# EAGLE library part *161 (library on-semiconductor)
Universal Voltage Monitor Source: www.onsemi.com/pub_link/Collateral/MC34161-D.PDF
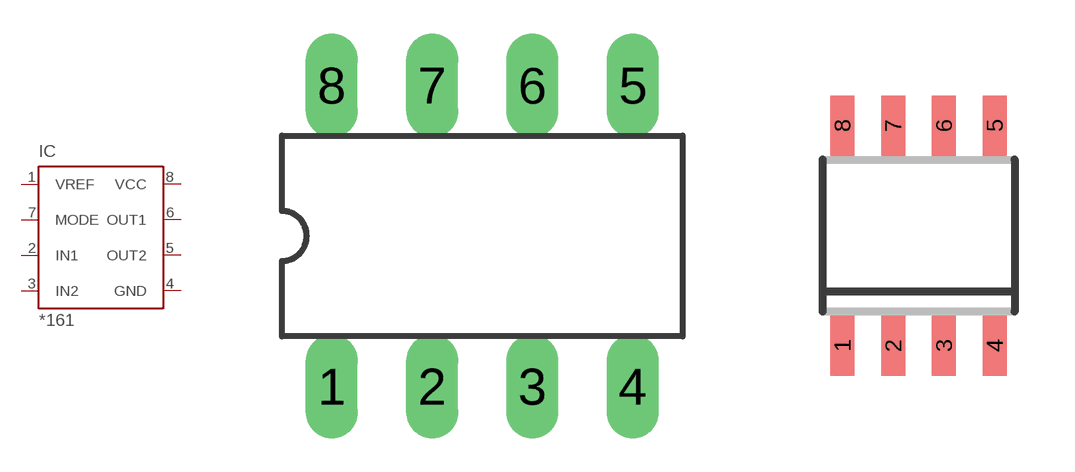
[diagram p8: symbol with the pads of DIL8; footprints DIL8, SOIC8]

Designator prefix IC

## MC33161P (MF: ON SEMICONDUCTOR; MPN: MC33161P; OC_FARNELL: unknown; OC_NEWARK: 07F4769), MC34161P (MF: ON SEMICONDUCTOR; MPN: MC34161P; OC_FARNELL: unknown; OC_NEWARK: 07F5035)  [DIL8]
1  VREF  out
2  IN1  in
3  IN2  in
4  GND  pwr
5  OUT2  oc
6  OUT1  oc
7  MODE  in
8  VCC  pwr

## MC33161D (MF: ON SEMICONDUCTOR; MPN: MC33161D; OC_FARNELL: 1192059; OC_NEWARK: 07F4768), MC34161D (MF: ON SEMICONDUCTOR; MPN: MC34161D; OC_FARNELL: 1652462; OC_NEWARK: 07F5034), NCV33161D (MPN: NCV33161DR2G; OC_FARNELL: unknown; OC_NEWARK: 27M2600)  [SOIC8]
Pads as for DIL8

## MC33161DM (MPN: MC33161DMR2G; OC_FARNELL: 1705447; OC_NEWARK: 04R7825), MC34161DM (MF: ON SEMICONDUCTOR; MPN: MC34161DMR2G; OC_FARNELL: 1652462; OC_NEWARK: 42K0658)  [MICRO8]
Pads as for DIL8

## Footprint DIL8 (pad centres in mm)
Dual In Line package type P
drill 0.813 long: 1 -3.81,-3.81; 2 -1.27,-3.81; 3 1.27,-3.81; 4 3.81,-3.81; 5 3.81,3.81; 6 1.27,3.81; 7 -1.27,3.81; 8 -3.81,3.81

## Footprint SOIC8 (pad centres in mm)
SOIC-8 CASE 751-07 Source: http://www.onsemi.com/pub/Collateral/MC34164-D.PDF D (R-PDSO-G8)PLATIC SMALL-OUTLINE PACKAGE Source: http://focus.ti.com/lit/ds/symlink/tlc27l2.pdf
smd 0.6 x 1.5: 1 -1.905,-2.75; 2 -0.635,-2.75; 3 0.635,-2.75; 4 1.905,-2.75; 5 1.905,2.75; 6 0.635,2.75; 7 -0.635,2.75; 8 -1.905,2.75

## Footprint MICRO8 (pad centres in mm)
Micro8 CASE 846A-02 Source: http://www.onsemi.com/pub/Collateral/MC34164-D.PDF
smd 0.38 x 1.05: 1 -0.975,-2.125; 2 -0.325,-2.125; 3 0.325,-2.125; 4 0.975,-2.125; 5 0.975,2.125; 6 0.325,2.125; 7 -0.325,2.125; 8 -0.975,2.125